# Altium footprint library ai-thinker.PcbLib: 1 footprints
Each footprint in its own frame and in the unit in brackets; x right, y up, seen from the top. Pads: shape width x height; smd on the part's side, far side on the other; paste and mask are expansions set on the pad; w line width, h text height; cw(c..) or ccw(c..) is an arc to the next point about the centre after c.
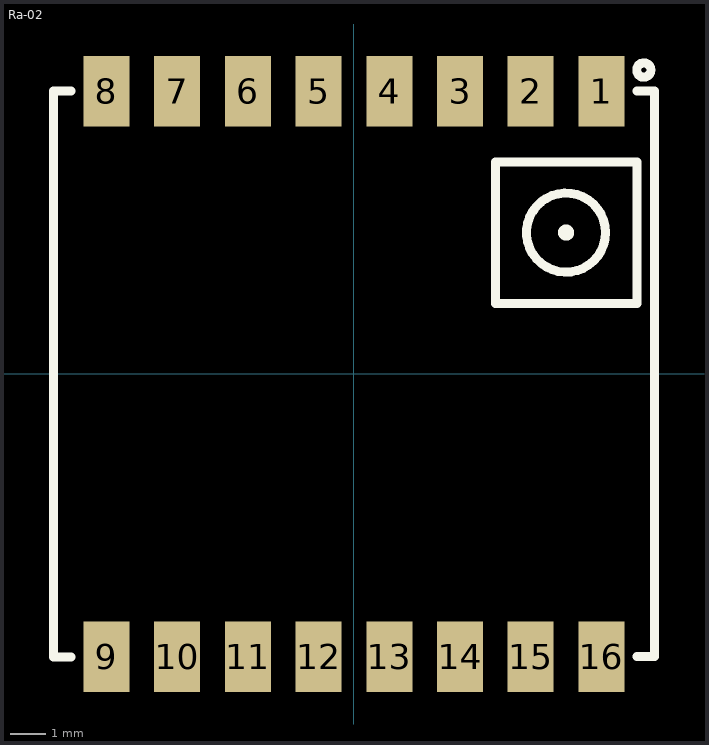
[diagram p0: the footprint, top view; thin cyan lines are the x and y axes]

## Ra-02 [mm]
pads (16):
  rect 1.3x2 smd: 1(7,8) 2(5,8) 3(3,8) 4(1,8) 5(-1,8) 6(-3,8) 7(-5,8) 8(-7,8) 9(-7,-8) 10(-5,-8) 11(-3,-8) 12(-1,-8) 13(1,-8) 14(3,-8) 15(5,-8) 16(7,-8)
Top Overlay:
  circle w0.254: c8.198,8.598 r0.2
  circle w0.254: c6,4 r0.1
  circle w0.254: c6,4 r1.118
  lines w0.254: -8,-8 -8.5,-8 -8.5,8 -8,8 ; 8.004,-7.996 8.503,-7.996 8.503,8.004 8.004,8.004 ; 4,2 4,6 8,6 8,2 4,2
3D body "User Library-RA-02-1.step": height 3.2, standoff 0, extent -8.5,-8 8.5,8